# Altium footprint library SuperCap.PcbLib: 16 footprints
Each footprint in its own frame and in the unit in brackets; x right, y up, seen from the top. Pads: shape width x height; smd on the part's side, far side on the other; paste and mask are expansions set on the pad; w line width, h text height; cw(c..) or ccw(c..) is an arc to the next point about the centre after c.
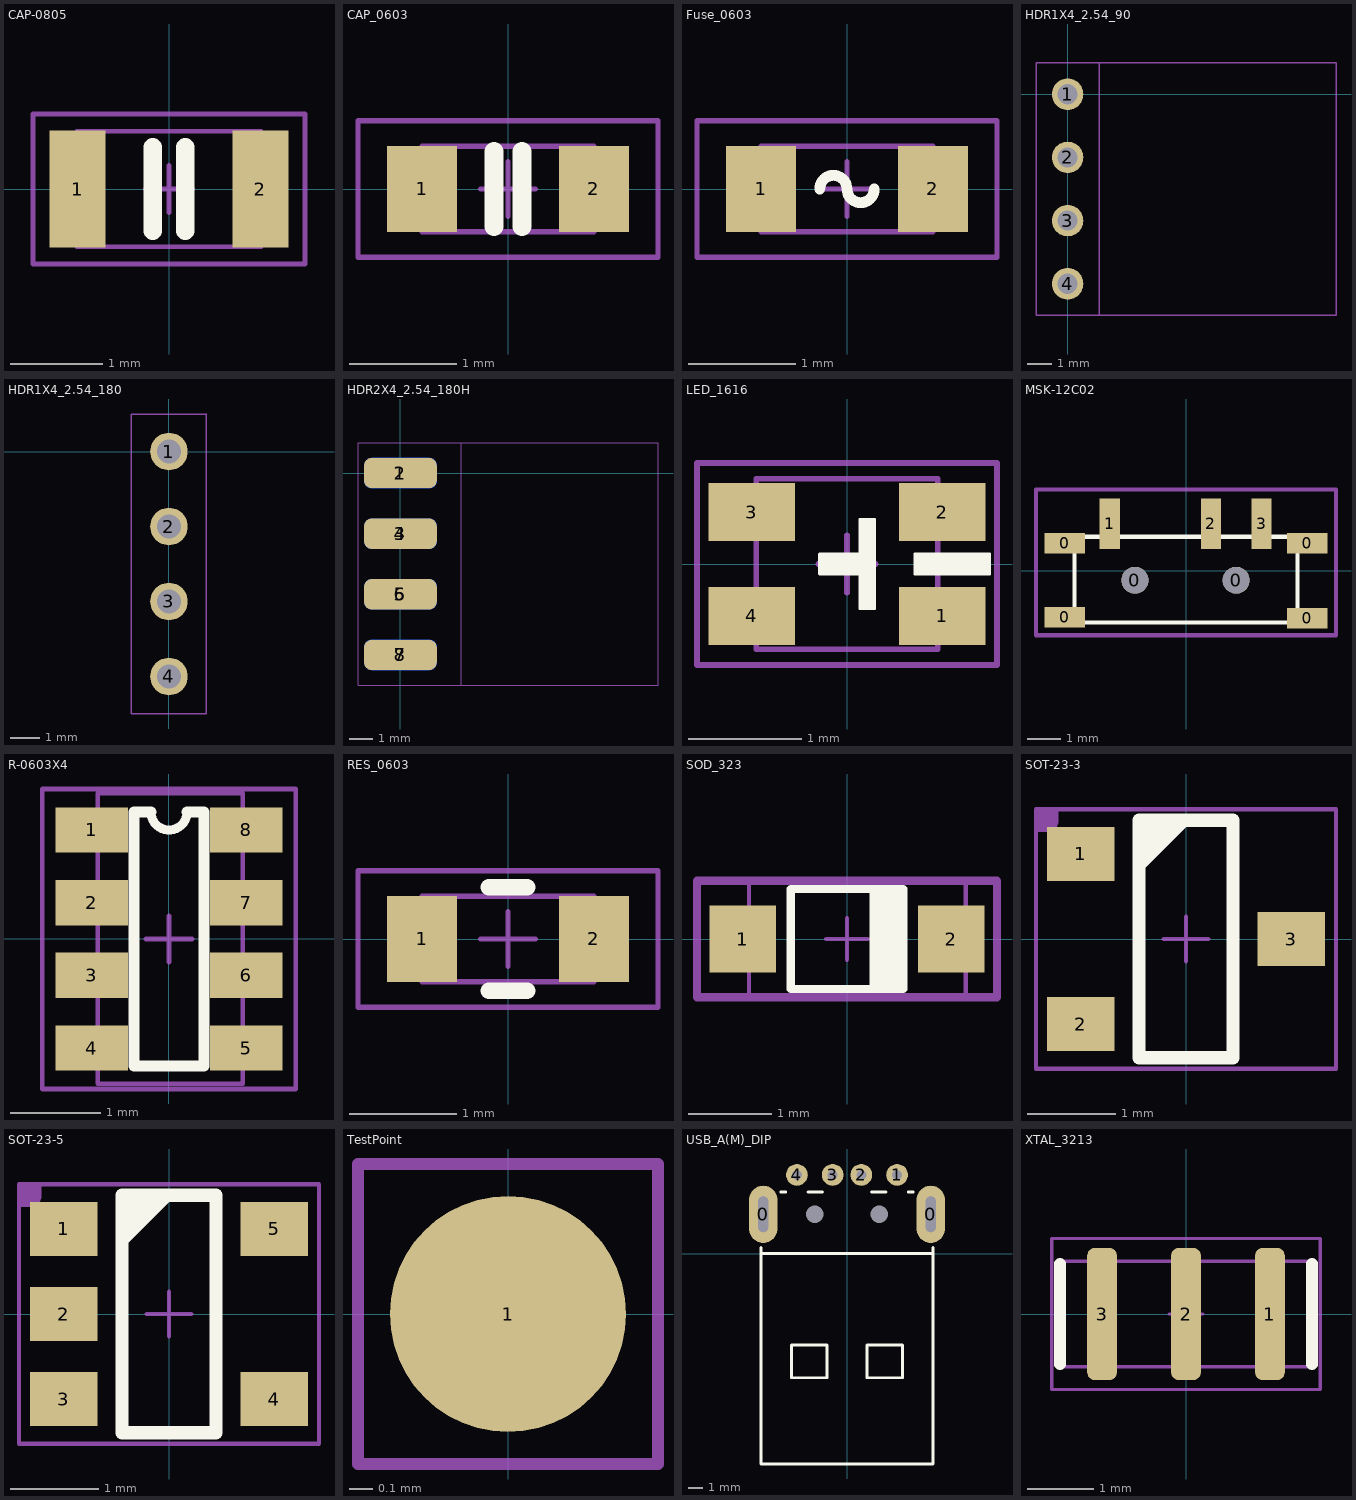
[diagram p0: the footprints below, top view; thin cyan lines are the x and y axes]

## CAP-0805 [mil]
height 47.24
pads (2):
  rect 24x50 smd: 1(-39,0) 2(39,0)
Top Overlay:
  lines w7.87: -6.89,-17.72 -6.89,17.72 ; 6.89,-17.72 6.89,17.72
Mechanical 13:
  lines w2: -10,0 10,0 ; 0,-10 0,10 ; -39.37,-24.61 39.37,-24.61 39.37,24.61 -39.37,24.61 -39.37,-24.61
Mechanical 14:
  lines w2: -58,-32 58,-32 58,32 -58,32 -58,-32
3D body "CAPC2012X10L.step": height 39.37, standoff 0, extent -39.37,-24.6 39.37,24.61

## CAP_0603 [mm]
height 0.45
pads (2):
  rect 0.65x0.8 smd: 1(-0.8,0) 2(0.8,0)
Top Overlay:
  lines w0.178: -0.13,-0.35 -0.13,0.35 ; 0.13,-0.35 0.13,0.35
Mechanical 13:
  lines w0.051: -0.254,0 0.254,0 ; 0,-0.254 0,0.254 ; -0.8,-0.4 -0.8,0.4 0.8,0.4 0.8,-0.4 -0.8,-0.4
Mechanical 14:
  lines w0.051: -1.397,-0.635 1.397,-0.635 1.397,0.635 -1.397,0.635 -1.397,-0.635
3D body "CAPC1608X08L.step": height 0.8, standoff 0, extent -0.8,-0.4 0.8,0.4

## Fuse_0603 [mm]
height 0.35
pads (2):
  rect 0.65x0.8 smd: 1(-0.8,0) 2(0.8,0)
Top Overlay:
  lines w0.1: -0.254,0 cw(c-0.127,0) -0.127,0.127 cw(c-0.127,0) 0,0 ccw(c0.127,0) 0.127,-0.127 ccw(c0.127,0) 0.254,0
Mechanical 13:
  lines w0.051: -0.254,0 0.254,0 ; 0,-0.254 0,0.254 ; -0.8,-0.4 -0.8,0.4 0.8,0.4 0.8,-0.4 -0.8,-0.4
Mechanical 14:
  lines w0.051: -1.397,-0.635 -1.397,0.635 1.397,0.635 1.397,-0.635 -1.397,-0.635
3D body "RESC1608X05L.step": height 0.45, standoff 0, extent -0.8,-0.4 0.8,0.4

## HDR1X4_2.54_90 [mil]
height 169.29
pads (4):
  round 50 hole 32: 1(0,0) 2(0,-100) 3(0,-200) 4(0,-300)
Mechanical 13:
  lines w2: -50,-350 -50,50 425,50 425,-350 -50,-350
Mechanical 14:
  lines w2: -50,-350 50,-350 50,50 -50,50 -50,-350
3D body "pin_header_aw140-ea-g04g.stp": height 99.21, standoff -93.7, extent -14.96,-346.06 423.62,46.07

## HDR1X4_2.54_180 [mil]
height 169.29
pads (4):
  round 50 hole 32: 1(0,0) 2(0,-100) 3(0,-200) 4(0,-300)
Mechanical 13:
  lines w2: -50,-350 50,-350 50,50 -50,50 -50,-350
Mechanical 14:
  lines w2: -50,-350 50,-350 50,50 -50,50 -50,-350
3D body "pin_header_aw140-eg-g04d.stp": height 322.83, standoff -118.11, extent -49.18,-350 49.18,50

## HDR2X4_2.54_180H [mil]
height 169.29
pads (8):
  rrect50% 120x50 smd: 1(0,0) 3(0,-100) 5(0,-200) 7(0,-300)
  rrect50% 120x50 smd far side: 2(0,0) 4(0,-100) 6(0,-200) 8(0,-300)
Mechanical 13:
  lines w2: -70,-350 425,-350 425,50 -70,50 -70,-350
Mechanical 14:
  lines w2: -70,-350 100,-350 100,50 -70,50 -70,-350
Mechanical 15:
  lines w2: -70,-350 100,-350 100,50 -70,50 -70,-350
3D body "pin_header_awl254-dg-g08d.stp": height 78, standoff -122, extent -38.11,-350 414.64,50

## LED_1616 [mil]
height 47.24
pads (4):
  rect 30x20 smd: 1(33,-18) 2(33,18) 3(-33,18) 4(-33,-18)
Top Overlay:
  region: 49.5,3.5 23.5,3.5 23.5,-3.5 49.5,-3.5
  region: 9.5,-15.5 4.5,-15.5 4.5,-3.5 -9.5,-3.5 -9.5,3.5 4.5,3.5 4.5,15.5 9.5,15.5
  lines w1: -9.5,-3.5 4.5,-3.5 4.5,-15.5 9.5,-15.5 9.5,15.5 4.5,15.5 4.5,3.5 -9.5,3.5 -9.5,-3.5 ; 23.5,-3.5 23.5,3.5 49.5,3.5 49.5,-3.5 23.5,-3.5
Mechanical 13:
  lines w2: -10,0 10,0 ; 0,-10 0,10 ; -31.49,-29.52 31.5,-29.52 31.5,29.53 -31.49,29.53 -31.49,-29.52
Mechanical 14:
  lines w2: -52,-35 -52,35 52,35 52,-35 -52,-35
3D body "User Library-HSMF-C114.STEP": height 13.39, standoff -0.39, extent -31.49,-29.52 31.5,29.53

## MSK-12C02 [mm]
pads (9):
  rect 1.2x0.6 smd: 0(-3.587,-1.375) 0(-3.587,0.825) 0(3.588,-1.4) 0(3.588,0.825)
  round 0.8 hole 0.8 unplated: 0(-1.512,-0.275) 0(1.488,-0.275)
  rect 0.6x1.5 smd: 1(-2.262,1.4) 2(0.738,1.4) 3(2.238,1.4)
Top Overlay:
  lines w0.127: -3.302,-1.524 3.302,-1.524 3.302,1.016 -3.302,1.016 -3.302,-1.524
Mechanical 14:
  lines w0.127: -4.445,-1.905 -4.445,2.413 4.445,2.413 4.445,-1.905 -4.445,-1.905
3D body "MSK-12C02.STEP": height 1.18, standoff -0.48, extent -3.862,-3.075 3.838,1.925

## R-0603X4 [mm]
pads (8):
  rect 0.8x0.5 smd: 1(-0.85,1.2) 2(-0.85,0.4) 3(-0.85,-0.4) 4(-0.85,-1.2) 5(0.85,-1.2) 6(0.85,-0.4) 7(0.85,0.4) 8(0.85,1.2)
Top Overlay:
  lines w0.1: -0.2,1.4 ccw(c0,1.4) 0.2,1.4
  lines w0.12: -0.2,1.4 -0.385,1.4 -0.385,-1.4 0.385,-1.4 0.385,1.4 0.2,1.4
Mechanical 13:
  lines w0.051: -0.254,0 0.254,0 ; 0,-0.254 0,0.254 ; -0.786,-1.594 -0.786,1.606 0.814,1.606 0.814,-1.594 -0.786,-1.594
Mechanical 14:
  lines w0.051: -1.397,-1.651 1.397,-1.651 1.397,1.651 -1.397,1.651 -1.397,-1.651
3D body "User Library-R-0603-Array-4-1.SLDPRT": height 0.51, standoff -0.01, extent -0.786,-1.594 0.814,1.606

## RES_0603 [mm]
height 0.45
pads (2):
  rect 0.65x0.8 smd: 1(-0.8,0) 2(0.8,0)
Top Overlay:
  lines w0.152: -0.178,-0.483 0.178,-0.483 ; -0.178,0.483 0.178,0.483
Mechanical 13:
  lines w0.051: -0.254,0 0.254,0 ; 0,-0.254 0,0.254 ; -0.8,-0.4 -0.8,0.4 0.8,0.4 0.8,-0.4 -0.8,-0.4
Mechanical 14:
  lines w0.051: -1.397,-0.635 1.397,-0.635 1.397,0.635 -1.397,0.635 -1.397,-0.635
3D body "RESC1608X05L.step": height 0.45, standoff 0, extent -0.8,-0.4 0.8,0.4

## SOD_323 [mm]
pads (2):
  rect 0.8x0.8 smd: 1(-1.25,0) 2(1.25,0)
Top Overlay:
  region: 0.725,0.6 0.725,-0.6 0.275,-0.6 0.275,0.6
  lines w0.1: 0.675,-0.6 -0.675,-0.6 -0.675,0.6 0.675,0.6
Mechanical 13:
  lines w0.051: -0.25,0 0.25,0 ; 0,-0.25 0,0.25 ; -1.175,-0.675 -1.175,0.675 1.425,0.675 1.425,-0.675 -1.175,-0.675
Mechanical 14:
  lines w0.1: -1.8,-0.7 -1.8,0.7 1.8,0.7 1.8,-0.7 -1.8,-0.7
3D body "User Library-SOD323-1.STEP": height 1.1, standoff 0, extent -1.175,-0.675 1.425,0.675

## SOT-23-3 [mil]
height 39.5
pads (3):
  rect 30x24 smd: 1(-47,38) 2(-47,-38) 3(47,0)
Top Overlay:
  region: -21,53 3,53 -21,29
  lines w6: -21,-53 -21,53 21,53 21,-53 -21,-53
Mechanical 13:
  lines w2: -10,0 10,0 ; 0,-10 0,10
Mechanical 14:
  region: -67,58 -57,58 -57,53 -57,52.01 -57.76,50.17 -59.17,48.76 -61.01,48 -62,48 -67,48
  lines w2: -67,-58 -67,58 67,58 67,-58 -67,-58
3D body "User Library-SOT23-3.STEP": height 51.18, standoff 0, extent -55.11,-57.09 55.12,57.09

## SOT-23-5 [mil]
height 62.99
pads (5):
  rect 30x24 smd: 1(-47,38) 2(-47,0) 3(-47,-38) 4(47,-38) 5(47,38)
Top Overlay:
  region: -21,53 3,53 -21,29
  lines w6: -21,-53 21,-53 21,53 -21,53 -21,-53
Mechanical 13:
  lines w2: -10,0 10,0 ; 0,-10 0,10
Mechanical 14:
  region: -67,58 -57,58 -57,53 -57,52.01 -57.76,50.17 -59.17,48.76 -61.01,48 -62,48 -67,48
  lines w2: -67,-58 -67,58 67,58 67,-58 -67,-58
3D body "User Library-SOT23-5-2.STEP": height 57.09, standoff 0, extent -55.11,-57.09 55.12,57.09

## TestPoint [mm]
height 4.3
pads (1):
  round 1 smd: 1(0,0)
Mechanical 13:
  lines w0.051: -0.635,-0.635 0.635,-0.635 0.635,0.635 -0.635,0.635 -0.635,-0.635
Mechanical 14:
  lines w0.051: -0.635,-0.635 -0.635,0.635 0.635,0.635 0.635,-0.635 -0.635,-0.635

## USB_A(M)_DIP [mm]
pads (8):
  oval 2x4 hole 0.7 slot 2.5 at 90 deg: 0(-5.85,2.75) 0(5.85,2.75)
  round 0.2 hole 1.2: 0(-2.25,2.75) 0(2.25,2.75)
  round 1.524 hole 0.7: 1(3.5,5.5) 2(1,5.5) 3(-1,5.5) 4(-3.5,5.5)
Top Overlay:
  lines w0.2: -6,0 6,0 ; -6,0.425 -6,-14.7 6,-14.7 6,0.425 ; -4.625,4.3 -4.275,4.3 ; -2.725,4.3 -1.7,4.3 ; 1.7,4.3 2.725,4.3 ; 4.275,4.3 4.625,4.3 ; -3.875,-8.675 -1.4,-8.675 -1.4,-6.375 -3.875,-6.375 -3.875,-8.675 ; 1.4,-8.675 3.875,-8.675 3.875,-6.375 1.4,-6.375 1.4,-8.675

## XTAL_3213 [mm]
pads (3):
  rrect50% 0.45x2 smd: 1(1.27,0) 2(0,0) 3(-1.27,0)
Top Overlay:
  lines w0.178: -1.905,-0.762 -1.905,0.762 ; 1.905,-0.762 1.905,0.762
Mechanical 13:
  lines w0.051: -0.254,0 0.254,0 ; 0,-0.254 0,0.254 ; -1.9,-0.8 1.9,-0.8 1.9,0.8 -1.9,0.8 -1.9,-0.8
Mechanical 14:
  lines w0.051: -2.032,-1.143 2.032,-1.143 2.032,1.143 -2.032,1.143 -2.032,-1.143
3D body: height 1, standoff 0, extent -1.9,-0.8 1.9,0.8